# EAGLE library part STS2400PC04 (library switches)
SWITCH SLIDE 4POS VERT BLACK T/H
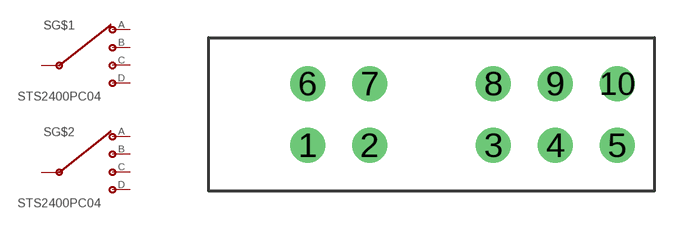
[diagram p2: symbol with the pads of STS2400PC04; footprint STS2400PC04]

Designator prefix S; gates G$1=SP4T G$2=SP4T

## STS2400PC04 (DIGIKEY: 450-1619-ND)  [STS2400PC04]
1  G$1:A
2  G$1:B
3  G$1:INPUT
4  G$1:C
5  G$1:D
6  G$2:A
7  G$2:B
8  G$2:INPUT
9  G$2:C
10  G$2:D

## Footprint STS2400PC04 (pad centres in mm)
drill 0.9: 1 -5,-1.245; 2 -2.5,-1.245; 3 2.5,-1.245; 4 5,-1.245; 5 7.5,-1.245; 6 -5,1.245; 7 -2.5,1.245; 8 2.5,1.245; 9 5,1.245; 10 7.5,1.245